# Altium integrated library TI Power Management Inverting Regulator.IntLib: 24 symbols
Pins are listed as number, name and electrical type; pins without a type are passive.

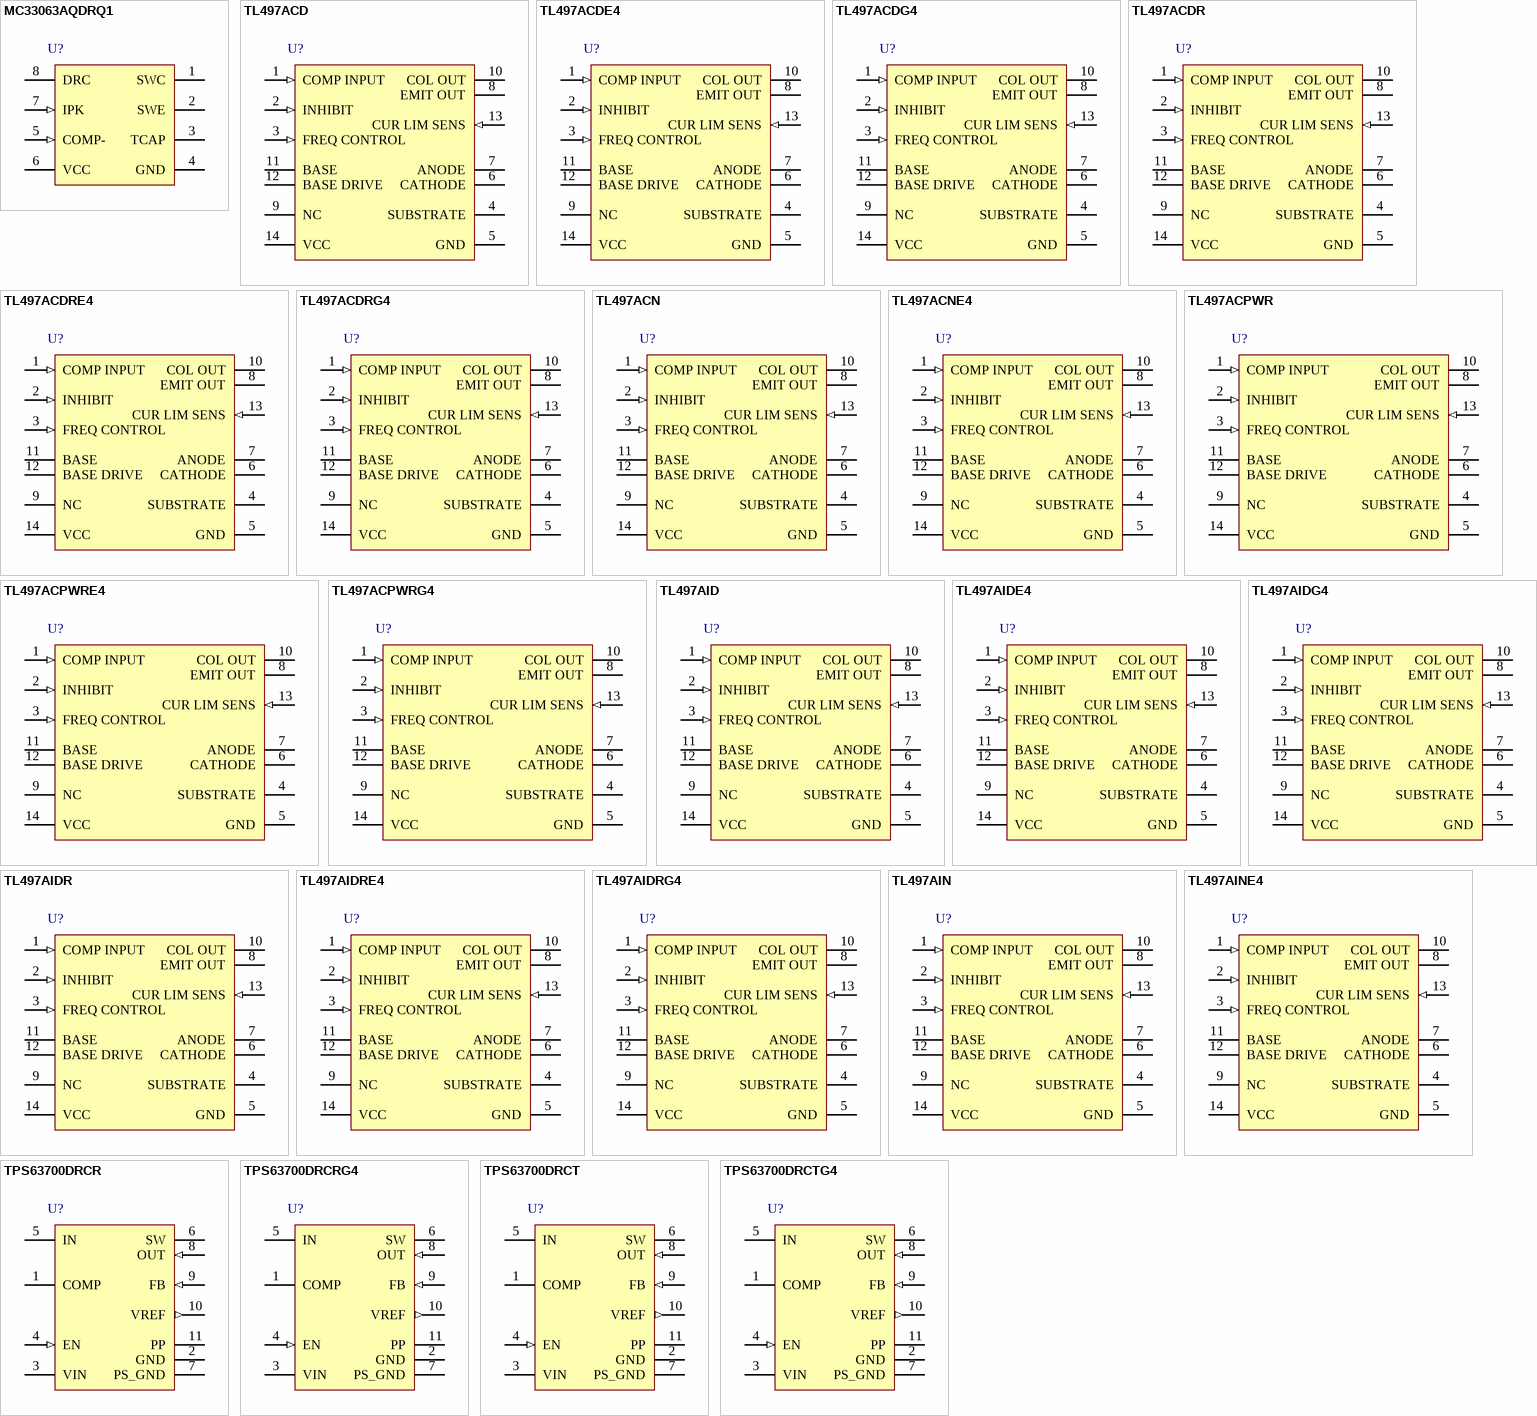
[diagram p0: symbols MC33063AQDRQ1 to TPS63700DRCTG4]

## MC33063AQDRQ1
designator U?
Inverting Buck-Boost Regulator with 3 to 40 V Input and 1.25 to 40 V Output, -40 to 125 degC, 8-Pin SOIC (D), Green (RoHS & no Sb/Br); Manufacturer: Texas Instruments; PartNumber: MC33063AQDRQ1; Regulated Outputs(#): 1; SubFamily: Inverting Regulator; Switch Current Limit(Typ)(A): 1.5; Switching Frequency(Max)(kHz): 100; Vin(Max)(V): 40; Vin(Min)(V): 3; Vout(Min)(V): 1.25; DatasheetVersion: SLLS654B; PackageVersion: revM, Jun-2011; PackageReference: D8; PackageDescription: 8-Pin Plastic Small Outline Integrated Circuit, 4.9 x 3.9 mm, Pitch 1.27 mm Pitch; Supplier 1: Digi-Key; Supplier Part Number 1: 296-18690-2-ND; Supplier 2: Digi-Key; Supplier Part Number 2: 296-18690-1-ND; Supplier 3: Digi-Key; Supplier Part Number 3: 296-18690-6-ND; Supplier 4: Newark; Supplier Part Number 4: 53K9332; Supplier 5: Mouser; Supplier Part Number 5: 595-MC33063AQDRQ1; Eco-Plan: Green (RoHS & no Sb/Br); Topology: Inverting Buck-Boost; Vout(Max)(V): 40; Mounting Technology: Surface Mount; Code_JEDEC: MS-012AA; ComponentLink1Description: Datasheet; ComponentLink1URL: http://www.ti.com/general/docs/lit/getliterature.tsp?genericPartNumber=MC33063A-Q1&fileType=pdf; ComponentLink2Description: Package Specification; ComponentLink2URL: http://www.ti.com/litv/pdf/msoi002j
footprint D8_N (SOIC, 8-Leads, Body 4.9x3.9mm, Pitch 1.27mm, IPC Medium Density)
footprint D8_L (SOIC, 8-Leads, Body 4.9x3.9mm, Pitch 1.27mm, IPC High Density)
footprint D8_M (SOIC, 8-Leads, Body 4.9x3.9mm, Pitch 1.27mm, IPC Low Density)
pins: 1 SWC (oc), 2 SWE (oe), 3 TCAP, 4 GND (power), 5 COMP- (in), 6 VCC (power), 7 IPK (in), 8 DRC (oc)

## TL497ACD
designator U?
Inverting Buck-Boost Regulator with 4.5 to 12 V Input and -25 to 30 V Output, 0 to 70 degC, 14-Pin SOIC (D), Green (RoHS & no Sb/Br); Manufacturer: Texas Instruments; PartNumber: TL497ACD; Iout(Max)(A): 0.5; Iq(Typ)(mA): 11; Regulated Outputs(#): 1; SubFamily: Inverting Regulator; Vin(Max)(V): 12; Vin(Min)(V): 4.5; Vout(Max)(V): 30; DatasheetVersion: SLVS009F; PackageVersion: revM, Jun-2011; PackageReference: D14; PackageDescription: 14-Pin Plastic Small Outline Integrated Circuit, 8.7 x 3.9 mm, Pitch 1.27 mm Pitch; Supplier 1: Digi-Key; Supplier Part Number 1: 296-10195-5-ND; Supplier 2: Newark; Supplier Part Number 2: 08F9460; Supplier 3: Mouser; Supplier Part Number 3: 595-TL497ACD; Eco-Plan: Green (RoHS & no Sb/Br); Switch Current Limit(Typ)(A): 0.5; Topology: Inverting Buck-Boost; Vout(Min)(V): -25; Mounting Technology: Surface Mount; Code_JEDEC: MS-012AB; ComponentLink1Description: Datasheet; ComponentLink1URL: http://www.ti.com/general/docs/lit/getliterature.tsp?genericPartNumber=TL497A&fileType=pdf; ComponentLink2Description: Package Specification; ComponentLink2URL: http://www.ti.com/lit/ml/mpds177g/mpds177g.pdf
footprint D14_N (SOIC, 14-Leads, Body 8.7x3.9mm, Pitch 1.27mm, IPC Medium Density)
footprint D14_L (SOIC, 14-Leads, Body 8.7x3.9mm, Pitch 1.27mm, IPC High Density)
footprint D14_M (SOIC, 14-Leads, Body 8.7x3.9mm, Pitch 1.27mm, IPC Low Density)
pins: 1 COMP INPUT (in), 2 INHIBIT (in), 3 FREQ CONTROL (in), 4 SUBSTRATE (power), 5 GND (power), 6 CATHODE, 7 ANODE, 8 EMIT OUT, 9 NC, 10 COL OUT, 11 BASE, 12 BASE DRIVE, 13 CUR LIM SENS (in), 14 VCC (power)

## TL497ACDE4
designator U?
Inverting Buck-Boost Regulator with 4.5 to 12 V Input and -25 to 30 V Output, 0 to 70 degC, 14-Pin SOIC (D), Green (RoHS & no Sb/Br); Manufacturer: Texas Instruments; PartNumber: TL497ACDE4; Iout(Max)(A): 0.5; Iq(Typ)(mA): 11; Regulated Outputs(#): 1; SubFamily: Inverting Regulator; Vin(Max)(V): 12; Vin(Min)(V): 4.5; Vout(Max)(V): 30; DatasheetVersion: SLVS009F; PackageVersion: revM, Jun-2011; PackageReference: D14; PackageDescription: 14-Pin Plastic Small Outline Integrated Circuit, 8.7 x 3.9 mm, Pitch 1.27 mm Pitch; Supplier 1: Digi-Key; Supplier Part Number 1: TL497ACDE4-ND; Supplier 2: Newark; Supplier Part Number 2: 37K4542; Supplier 3: Mouser; Supplier Part Number 3: 595-TL497ACDE4; Eco-Plan: Green (RoHS & no Sb/Br); Switch Current Limit(Typ)(A): 0.5; Topology: Inverting Buck-Boost; Vout(Min)(V): -25; Mounting Technology: Surface Mount; Code_JEDEC: MS-012AB; ComponentLink1Description: Datasheet; ComponentLink1URL: http://www.ti.com/general/docs/lit/getliterature.tsp?genericPartNumber=TL497A&fileType=pdf; ComponentLink2Description: Package Specification; ComponentLink2URL: http://www.ti.com/lit/ml/mpds177g/mpds177g.pdf
footprint D14_N (SOIC, 14-Leads, Body 8.7x3.9mm, Pitch 1.27mm, IPC Medium Density)
footprint D14_L (SOIC, 14-Leads, Body 8.7x3.9mm, Pitch 1.27mm, IPC High Density)
footprint D14_M (SOIC, 14-Leads, Body 8.7x3.9mm, Pitch 1.27mm, IPC Low Density)
pins: 1 COMP INPUT (in), 2 INHIBIT (in), 3 FREQ CONTROL (in), 4 SUBSTRATE (power), 5 GND (power), 6 CATHODE, 7 ANODE, 8 EMIT OUT, 9 NC, 10 COL OUT, 11 BASE, 12 BASE DRIVE, 13 CUR LIM SENS (in), 14 VCC (power)

## TL497ACDG4
designator U?
Inverting Buck-Boost Regulator with 4.5 to 12 V Input and -25 to 30 V Output, 0 to 70 degC, 14-Pin SOIC (D), Green (RoHS & no Sb/Br); Manufacturer: Texas Instruments; PartNumber: TL497ACDG4; Iout(Max)(A): 0.5; Iq(Typ)(mA): 11; Regulated Outputs(#): 1; SubFamily: Inverting Regulator; Vin(Max)(V): 12; Vin(Min)(V): 4.5; Vout(Max)(V): 30; DatasheetVersion: SLVS009F; PackageVersion: revM, Jun-2011; PackageReference: D14; PackageDescription: 14-Pin Plastic Small Outline Integrated Circuit, 8.7 x 3.9 mm, Pitch 1.27 mm Pitch; Supplier 1: Digi-Key; Supplier Part Number 1: TL497ACDG4-ND; Supplier 2: Newark; Supplier Part Number 2: 41M5757; Supplier 3: Mouser; Supplier Part Number 3: 595-TL497ACDG4; Eco-Plan: Green (RoHS & no Sb/Br); Switch Current Limit(Typ)(A): 0.5; Topology: Inverting Buck-Boost; Vout(Min)(V): -25; Mounting Technology: Surface Mount; Code_JEDEC: MS-012AB; ComponentLink1Description: Datasheet; ComponentLink1URL: http://www.ti.com/general/docs/lit/getliterature.tsp?genericPartNumber=TL497A&fileType=pdf; ComponentLink2Description: Package Specification; ComponentLink2URL: http://www.ti.com/lit/ml/mpds177g/mpds177g.pdf
footprint D14_N (SOIC, 14-Leads, Body 8.7x3.9mm, Pitch 1.27mm, IPC Medium Density)
footprint D14_L (SOIC, 14-Leads, Body 8.7x3.9mm, Pitch 1.27mm, IPC High Density)
footprint D14_M (SOIC, 14-Leads, Body 8.7x3.9mm, Pitch 1.27mm, IPC Low Density)
pins: 1 COMP INPUT (in), 2 INHIBIT (in), 3 FREQ CONTROL (in), 4 SUBSTRATE (power), 5 GND (power), 6 CATHODE, 7 ANODE, 8 EMIT OUT, 9 NC, 10 COL OUT, 11 BASE, 12 BASE DRIVE, 13 CUR LIM SENS (in), 14 VCC (power)

## TL497ACDR
designator U?
Inverting Buck-Boost Regulator with 4.5 to 12 V Input and -25 to 30 V Output, 0 to 70 degC, 14-Pin SOIC (D), Green (RoHS & no Sb/Br); Manufacturer: Texas Instruments; PartNumber: TL497ACDR; Iout(Max)(A): 0.5; Iq(Typ)(mA): 11; Regulated Outputs(#): 1; SubFamily: Inverting Regulator; Vin(Max)(V): 12; Vin(Min)(V): 4.5; Vout(Max)(V): 30; DatasheetVersion: SLVS009F; PackageVersion: revM, Jun-2011; PackageReference: D14; PackageDescription: 14-Pin Plastic Small Outline Integrated Circuit, 8.7 x 3.9 mm, Pitch 1.27 mm Pitch; Supplier 1: Digi-Key; Supplier Part Number 1: 296-10195-2-ND; Supplier 2: Digi-Key; Supplier Part Number 2: 296-10195-1-ND; Supplier 3: Newark; Supplier Part Number 3: 76C9277; Supplier 4: Mouser; Supplier Part Number 4: 595-TL497ACDR; Eco-Plan: Green (RoHS & no Sb/Br); Switch Current Limit(Typ)(A): 0.5; Topology: Inverting Buck-Boost; Vout(Min)(V): -25; Mounting Technology: Surface Mount; Code_JEDEC: MS-012AB; ComponentLink1Description: Datasheet; ComponentLink1URL: http://www.ti.com/general/docs/lit/getliterature.tsp?genericPartNumber=TL497A&fileType=pdf; ComponentLink2Description: Package Specification; ComponentLink2URL: http://www.ti.com/lit/ml/mpds177g/mpds177g.pdf
footprint D14_N (SOIC, 14-Leads, Body 8.7x3.9mm, Pitch 1.27mm, IPC Medium Density)
footprint D14_L (SOIC, 14-Leads, Body 8.7x3.9mm, Pitch 1.27mm, IPC High Density)
footprint D14_M (SOIC, 14-Leads, Body 8.7x3.9mm, Pitch 1.27mm, IPC Low Density)
pins: 1 COMP INPUT (in), 2 INHIBIT (in), 3 FREQ CONTROL (in), 4 SUBSTRATE (power), 5 GND (power), 6 CATHODE, 7 ANODE, 8 EMIT OUT, 9 NC, 10 COL OUT, 11 BASE, 12 BASE DRIVE, 13 CUR LIM SENS (in), 14 VCC (power)

## TL497ACDRE4
designator U?
Inverting Buck-Boost Regulator with 4.5 to 12 V Input and -25 to 30 V Output, 0 to 70 degC, 14-Pin SOIC (D), Green (RoHS & no Sb/Br); Manufacturer: Texas Instruments; PartNumber: TL497ACDRE4; Iout(Max)(A): 0.5; Iq(Typ)(mA): 11; Regulated Outputs(#): 1; SubFamily: Inverting Regulator; Vin(Max)(V): 12; Vin(Min)(V): 4.5; Vout(Max)(V): 30; DatasheetVersion: SLVS009F; PackageVersion: revM, Jun-2011; PackageReference: D14; PackageDescription: 14-Pin Plastic Small Outline Integrated Circuit, 8.7 x 3.9 mm, Pitch 1.27 mm Pitch; Supplier 1: Digi-Key; Supplier Part Number 1: TL497ACDRE4-ND; Supplier 2: Newark; Supplier Part Number 2: 37K4543; Supplier 3: Mouser; Supplier Part Number 3: 595-TL497ACDRE4; Eco-Plan: Green (RoHS & no Sb/Br); Switch Current Limit(Typ)(A): 0.5; Topology: Inverting Buck-Boost; Vout(Min)(V): -25; Mounting Technology: Surface Mount; Code_JEDEC: MS-012AB; ComponentLink1Description: Datasheet; ComponentLink1URL: http://www.ti.com/general/docs/lit/getliterature.tsp?genericPartNumber=TL497A&fileType=pdf; ComponentLink2Description: Package Specification; ComponentLink2URL: http://www.ti.com/lit/ml/mpds177g/mpds177g.pdf
footprint D14_N (SOIC, 14-Leads, Body 8.7x3.9mm, Pitch 1.27mm, IPC Medium Density)
footprint D14_L (SOIC, 14-Leads, Body 8.7x3.9mm, Pitch 1.27mm, IPC High Density)
footprint D14_M (SOIC, 14-Leads, Body 8.7x3.9mm, Pitch 1.27mm, IPC Low Density)
pins: 1 COMP INPUT (in), 2 INHIBIT (in), 3 FREQ CONTROL (in), 4 SUBSTRATE (power), 5 GND (power), 6 CATHODE, 7 ANODE, 8 EMIT OUT, 9 NC, 10 COL OUT, 11 BASE, 12 BASE DRIVE, 13 CUR LIM SENS (in), 14 VCC (power)

## TL497ACDRG4
designator U?
Inverting Buck-Boost Regulator with 4.5 to 12 V Input and -25 to 30 V Output, 0 to 70 degC, 14-Pin SOIC (D), Green (RoHS & no Sb/Br); Manufacturer: Texas Instruments; PartNumber: TL497ACDRG4; Iout(Max)(A): 0.5; Iq(Typ)(mA): 11; Regulated Outputs(#): 1; SubFamily: Inverting Regulator; Vin(Max)(V): 12; Vin(Min)(V): 4.5; Vout(Max)(V): 30; DatasheetVersion: SLVS009F; PackageVersion: revM, Jun-2011; PackageReference: D14; PackageDescription: 14-Pin Plastic Small Outline Integrated Circuit, 8.7 x 3.9 mm, Pitch 1.27 mm Pitch; Supplier 1: Digi-Key; Supplier Part Number 1: TL497ACDRG4-ND; Supplier 2: Newark; Supplier Part Number 2: 41M5758; Supplier 3: Mouser; Supplier Part Number 3: 595-TL497ACDRG4; Eco-Plan: Green (RoHS & no Sb/Br); Switch Current Limit(Typ)(A): 0.5; Topology: Inverting Buck-Boost; Vout(Min)(V): -25; Mounting Technology: Surface Mount; Code_JEDEC: MS-012AB; ComponentLink1Description: Datasheet; ComponentLink1URL: http://www.ti.com/general/docs/lit/getliterature.tsp?genericPartNumber=TL497A&fileType=pdf; ComponentLink2Description: Package Specification; ComponentLink2URL: http://www.ti.com/lit/ml/mpds177g/mpds177g.pdf
footprint D14_N (SOIC, 14-Leads, Body 8.7x3.9mm, Pitch 1.27mm, IPC Medium Density)
footprint D14_L (SOIC, 14-Leads, Body 8.7x3.9mm, Pitch 1.27mm, IPC High Density)
footprint D14_M (SOIC, 14-Leads, Body 8.7x3.9mm, Pitch 1.27mm, IPC Low Density)
pins: 1 COMP INPUT (in), 2 INHIBIT (in), 3 FREQ CONTROL (in), 4 SUBSTRATE (power), 5 GND (power), 6 CATHODE, 7 ANODE, 8 EMIT OUT, 9 NC, 10 COL OUT, 11 BASE, 12 BASE DRIVE, 13 CUR LIM SENS (in), 14 VCC (power)

## TL497ACN
designator U?
Inverting Buck-Boost Regulator with 4.5 to 12 V Input and -25 to 30 V Output, 0 to 70 degC, 14-Pin PDIP (N), Pb-Free (RoHS); Manufacturer: Texas Instruments; PartNumber: TL497ACN; Iout(Max)(A): 0.5; Iq(Typ)(mA): 11; Regulated Outputs(#): 1; SubFamily: Inverting Regulator; Vin(Max)(V): 12; Vin(Min)(V): 4.5; Vout(Max)(V): 30; DatasheetVersion: SLVS009F; PackageVersion: revE, Dec-2002; PackageReference: N14; PackageDescription: 14-Pin Plastic Dual-In-Line Package, Row Spacing 7.62 mm, Pitch 2.54 mm; Supplier 1: Digi-Key; Supplier Part Number 1: 296-10196-5-ND; Supplier 2: Farnell; Supplier Part Number 2: 1106037; Supplier 3: Farnell; Supplier Part Number 3: 2133867; Supplier 4: Newark; Supplier Part Number 4: 68K1133; Supplier 5: Mouser; Supplier Part Number 5: 595-TL497ACN; Eco-Plan: Pb-Free (RoHS); Switch Current Limit(Typ)(A): 0.5; Topology: Inverting Buck-Boost; Vout(Min)(V): -25; Mounting Technology: Through Hole; Code_JEDEC: MS-001; ComponentLink1Description: Datasheet; ComponentLink1URL: http://www.ti.com/general/docs/lit/getliterature.tsp?genericPartNumber=TL497A&fileType=pdf; ComponentLink2Description: Package Specification; ComponentLink2URL: http://www.ti.com/litv/pdf/mplc004a
footprint N14 (DIP, 14-Leads, Row Spacing 7.62mm, Pitch 2.54mm, Body 19.3x6.4mm)
pins: 1 COMP INPUT (in), 2 INHIBIT (in), 3 FREQ CONTROL (in), 4 SUBSTRATE (power), 5 GND (power), 6 CATHODE, 7 ANODE, 8 EMIT OUT, 9 NC, 10 COL OUT, 11 BASE, 12 BASE DRIVE, 13 CUR LIM SENS (in), 14 VCC (power)

## TL497ACNE4
designator U?
Inverting Buck-Boost Regulator with 4.5 to 12 V Input and -25 to 30 V Output, 0 to 70 degC, 14-Pin PDIP (N), Pb-Free (RoHS); Manufacturer: Texas Instruments; PartNumber: TL497ACNE4; Iout(Max)(A): 0.5; Iq(Typ)(mA): 11; Regulated Outputs(#): 1; SubFamily: Inverting Regulator; Vin(Max)(V): 12; Vin(Min)(V): 4.5; Vout(Max)(V): 30; DatasheetVersion: SLVS009F; PackageVersion: revE, Dec-2002; PackageReference: N14; PackageDescription: 14-Pin Plastic Dual-In-Line Package, Row Spacing 7.62 mm, Pitch 2.54 mm; Supplier 1: Digi-Key; Supplier Part Number 1: TL497ACNE4-ND; Supplier 2: Newark; Supplier Part Number 2: 75K1600; Supplier 3: Mouser; Supplier Part Number 3: 595-TL497ACNE4; Eco-Plan: Pb-Free (RoHS); Switch Current Limit(Typ)(A): 0.5; Topology: Inverting Buck-Boost; Vout(Min)(V): -25; Mounting Technology: Through Hole; Code_JEDEC: MS-001; ComponentLink1Description: Datasheet; ComponentLink1URL: http://www.ti.com/general/docs/lit/getliterature.tsp?genericPartNumber=TL497A&fileType=pdf; ComponentLink2Description: Package Specification; ComponentLink2URL: http://www.ti.com/litv/pdf/mplc004a
footprint N14 (DIP, 14-Leads, Row Spacing 7.62mm, Pitch 2.54mm, Body 19.3x6.4mm)
pins: 1 COMP INPUT (in), 2 INHIBIT (in), 3 FREQ CONTROL (in), 4 SUBSTRATE (power), 5 GND (power), 6 CATHODE, 7 ANODE, 8 EMIT OUT, 9 NC, 10 COL OUT, 11 BASE, 12 BASE DRIVE, 13 CUR LIM SENS (in), 14 VCC (power)

## TL497ACPWR
designator U?
Inverting Buck-Boost Regulator with 4.5 to 12 V Input and -25 to 30 V Output, 0 to 70 degC, 14-Pin TSSOP (PW), Green (RoHS & no Sb/Br); Manufacturer: Texas Instruments; PartNumber: TL497ACPWR; Iout(Max)(A): 0.5; Iq(Typ)(mA): 11; Regulated Outputs(#): 1; SubFamily: Inverting Regulator; Vin(Max)(V): 12; Vin(Min)(V): 4.5; Vout(Max)(V): 30; DatasheetVersion: SLVS009F; PackageVersion: revG, Feb-2011; PackageReference: PW14; PackageDescription: 14-Pin Thin Small Outline Package 0.65 mm Pitch; Supplier 1: Digi-Key; Supplier Part Number 1: 296-23298-2-ND; Supplier 2: Digi-Key; Supplier Part Number 2: 296-23298-1-ND; Supplier 3: Digi-Key; Supplier Part Number 3: 296-23298-6-ND; Supplier 4: Newark; Supplier Part Number 4: 76C9279; Supplier 5: Mouser; Supplier Part Number 5: 595-TL497ACPWR; Eco-Plan: Green (RoHS & no Sb/Br); Switch Current Limit(Typ)(A): 0.5; Topology: Inverting Buck-Boost; Vout(Min)(V): -25; Mounting Technology: Surface Mount; Code_JEDEC: MO-153; ComponentLink1Description: Datasheet; ComponentLink1URL: http://www.ti.com/general/docs/lit/getliterature.tsp?genericPartNumber=TL497A&fileType=pdf; ComponentLink2Description: Package Specification; ComponentLink2URL: http://www.ti.com/litv/pdf/mpds177g
footprint PW14_N (TSOP, 14-Leads, Body 5x4.4mm, Pitch 0.65mm, IPC Medium Density)
footprint PW14_L (TSOP, 14-Leads, Body 5x4.4mm, Pitch 0.65mm, IPC High Density)
footprint PW14_M (TSOP, 14-Leads, Body 5x4.4mm, Pitch 0.65mm, IPC Low Density)
pins: 1 COMP INPUT (in), 2 INHIBIT (in), 3 FREQ CONTROL (in), 4 SUBSTRATE (power), 5 GND (power), 6 CATHODE, 7 ANODE, 8 EMIT OUT, 9 NC, 10 COL OUT, 11 BASE, 12 BASE DRIVE, 13 CUR LIM SENS (in), 14 VCC (power)

## TL497ACPWRE4
designator U?
Inverting Buck-Boost Regulator with 4.5 to 12 V Input and -25 to 30 V Output, 0 to 70 degC, 14-Pin TSSOP (PW), Green (RoHS & no Sb/Br); Manufacturer: Texas Instruments; PartNumber: TL497ACPWRE4; Iout(Max)(A): 0.5; Iq(Typ)(mA): 11; Regulated Outputs(#): 1; SubFamily: Inverting Regulator; Vin(Max)(V): 12; Vin(Min)(V): 4.5; Vout(Max)(V): 30; DatasheetVersion: SLVS009F; PackageVersion: revG, Feb-2011; PackageReference: PW14; PackageDescription: 14-Pin Thin Small Outline Package 0.65 mm Pitch; Supplier 1: Digi-Key; Supplier Part Number 1: TL497ACPWRE4-ND; Supplier 2: Newark; Supplier Part Number 2: 69K0648; Supplier 3: Mouser; Supplier Part Number 3: 595-TL497ACPWRE4; Eco-Plan: Green (RoHS & no Sb/Br); Switch Current Limit(Typ)(A): 0.5; Topology: Inverting Buck-Boost; Vout(Min)(V): -25; Mounting Technology: Surface Mount; Code_JEDEC: MO-153; ComponentLink1Description: Datasheet; ComponentLink1URL: http://www.ti.com/general/docs/lit/getliterature.tsp?genericPartNumber=TL497A&fileType=pdf; ComponentLink2Description: Package Specification; ComponentLink2URL: http://www.ti.com/litv/pdf/mpds177g
footprint PW14_N (TSOP, 14-Leads, Body 5x4.4mm, Pitch 0.65mm, IPC Medium Density)
footprint PW14_L (TSOP, 14-Leads, Body 5x4.4mm, Pitch 0.65mm, IPC High Density)
footprint PW14_M (TSOP, 14-Leads, Body 5x4.4mm, Pitch 0.65mm, IPC Low Density)
pins: 1 COMP INPUT (in), 2 INHIBIT (in), 3 FREQ CONTROL (in), 4 SUBSTRATE (power), 5 GND (power), 6 CATHODE, 7 ANODE, 8 EMIT OUT, 9 NC, 10 COL OUT, 11 BASE, 12 BASE DRIVE, 13 CUR LIM SENS (in), 14 VCC (power)

## TL497ACPWRG4
designator U?
Inverting Buck-Boost Regulator with 4.5 to 12 V Input and -25 to 30 V Output, 0 to 70 degC, 14-Pin TSSOP (PW), Green (RoHS & no Sb/Br); Manufacturer: Texas Instruments; PartNumber: TL497ACPWRG4; Iout(Max)(A): 0.5; Iq(Typ)(mA): 11; Regulated Outputs(#): 1; SubFamily: Inverting Regulator; Vin(Max)(V): 12; Vin(Min)(V): 4.5; Vout(Max)(V): 30; DatasheetVersion: SLVS009F; PackageVersion: revG, Feb-2011; PackageReference: PW14; PackageDescription: 14-Pin Thin Small Outline Package 0.65 mm Pitch; Supplier 1: Digi-Key; Supplier Part Number 1: TL497ACPWRG4-ND; Supplier 2: Newark; Supplier Part Number 2: 40K9716; Supplier 3: Mouser; Supplier Part Number 3: 595-TL497ACPWRG4; Eco-Plan: Green (RoHS & no Sb/Br); Switch Current Limit(Typ)(A): 0.5; Topology: Inverting Buck-Boost; Vout(Min)(V): -25; Mounting Technology: Surface Mount; Code_JEDEC: MO-153; ComponentLink1Description: Datasheet; ComponentLink1URL: http://www.ti.com/general/docs/lit/getliterature.tsp?genericPartNumber=TL497A&fileType=pdf; ComponentLink2Description: Package Specification; ComponentLink2URL: http://www.ti.com/litv/pdf/mpds177g
footprint PW14_N (TSOP, 14-Leads, Body 5x4.4mm, Pitch 0.65mm, IPC Medium Density)
footprint PW14_L (TSOP, 14-Leads, Body 5x4.4mm, Pitch 0.65mm, IPC High Density)
footprint PW14_M (TSOP, 14-Leads, Body 5x4.4mm, Pitch 0.65mm, IPC Low Density)
pins: 1 COMP INPUT (in), 2 INHIBIT (in), 3 FREQ CONTROL (in), 4 SUBSTRATE (power), 5 GND (power), 6 CATHODE, 7 ANODE, 8 EMIT OUT, 9 NC, 10 COL OUT, 11 BASE, 12 BASE DRIVE, 13 CUR LIM SENS (in), 14 VCC (power)

## TL497AID
designator U?
Inverting Buck-Boost Regulator with 4.5 to 12 V Input and -25 to 30 V Output, -40 to 85 degC, 14-Pin SOIC (D), Green (RoHS & no Sb/Br); Manufacturer: Texas Instruments; PartNumber: TL497AID; Iout(Max)(A): 0.5; Iq(Typ)(mA): 11; Regulated Outputs(#): 1; SubFamily: Inverting Regulator; Vin(Max)(V): 12; Vin(Min)(V): 4.5; Vout(Max)(V): 30; DatasheetVersion: SLVS009F; PackageVersion: revM, Jun-2011; PackageReference: D14; PackageDescription: 14-Pin Plastic Small Outline Integrated Circuit, 8.7 x 3.9 mm, Pitch 1.27 mm Pitch; Supplier 1: Digi-Key; Supplier Part Number 1: 296-10197-5-ND; Supplier 2: Newark; Supplier Part Number 2: 76C9280; Supplier 3: Mouser; Supplier Part Number 3: 595-TL497AID; Eco-Plan: Green (RoHS & no Sb/Br); Switch Current Limit(Typ)(A): 0.5; Topology: Inverting Buck-Boost; Vout(Min)(V): -25; Mounting Technology: Surface Mount; Code_JEDEC: MS-012AB; ComponentLink1Description: Datasheet; ComponentLink1URL: http://www.ti.com/general/docs/lit/getliterature.tsp?genericPartNumber=TL497A&fileType=pdf; ComponentLink2Description: Package Specification; ComponentLink2URL: http://www.ti.com/lit/ml/mpds177g/mpds177g.pdf
footprint D14_N (SOIC, 14-Leads, Body 8.7x3.9mm, Pitch 1.27mm, IPC Medium Density)
footprint D14_L (SOIC, 14-Leads, Body 8.7x3.9mm, Pitch 1.27mm, IPC High Density)
footprint D14_M (SOIC, 14-Leads, Body 8.7x3.9mm, Pitch 1.27mm, IPC Low Density)
pins: 1 COMP INPUT (in), 2 INHIBIT (in), 3 FREQ CONTROL (in), 4 SUBSTRATE (power), 5 GND (power), 6 CATHODE, 7 ANODE, 8 EMIT OUT, 9 NC, 10 COL OUT, 11 BASE, 12 BASE DRIVE, 13 CUR LIM SENS (in), 14 VCC (power)

## TL497AIDE4
designator U?
Inverting Buck-Boost Regulator with 4.5 to 12 V Input and -25 to 30 V Output, -40 to 85 degC, 14-Pin SOIC (D), Green (RoHS & no Sb/Br); Manufacturer: Texas Instruments; PartNumber: TL497AIDE4; Iout(Max)(A): 0.5; Iq(Typ)(mA): 11; Regulated Outputs(#): 1; SubFamily: Inverting Regulator; Vin(Max)(V): 12; Vin(Min)(V): 4.5; Vout(Max)(V): 30; DatasheetVersion: SLVS009F; PackageVersion: revM, Jun-2011; PackageReference: D14; PackageDescription: 14-Pin Plastic Small Outline Integrated Circuit, 8.7 x 3.9 mm, Pitch 1.27 mm Pitch; Supplier 1: Digi-Key; Supplier Part Number 1: TL497AIDE4-ND; Supplier 2: Newark; Supplier Part Number 2: 37K4545; Supplier 3: Mouser; Supplier Part Number 3: 595-TL497AIDE4; Eco-Plan: Green (RoHS & no Sb/Br); Switch Current Limit(Typ)(A): 0.5; Topology: Inverting Buck-Boost; Vout(Min)(V): -25; Mounting Technology: Surface Mount; Code_JEDEC: MS-012AB; ComponentLink1Description: Datasheet; ComponentLink1URL: http://www.ti.com/general/docs/lit/getliterature.tsp?genericPartNumber=TL497A&fileType=pdf; ComponentLink2Description: Package Specification; ComponentLink2URL: http://www.ti.com/lit/ml/mpds177g/mpds177g.pdf
footprint D14_N (SOIC, 14-Leads, Body 8.7x3.9mm, Pitch 1.27mm, IPC Medium Density)
footprint D14_L (SOIC, 14-Leads, Body 8.7x3.9mm, Pitch 1.27mm, IPC High Density)
footprint D14_M (SOIC, 14-Leads, Body 8.7x3.9mm, Pitch 1.27mm, IPC Low Density)
pins: 1 COMP INPUT (in), 2 INHIBIT (in), 3 FREQ CONTROL (in), 4 SUBSTRATE (power), 5 GND (power), 6 CATHODE, 7 ANODE, 8 EMIT OUT, 9 NC, 10 COL OUT, 11 BASE, 12 BASE DRIVE, 13 CUR LIM SENS (in), 14 VCC (power)

## TL497AIDG4
designator U?
Inverting Buck-Boost Regulator with 4.5 to 12 V Input and -25 to 30 V Output, -40 to 85 degC, 14-Pin SOIC (D), Green (RoHS & no Sb/Br); Manufacturer: Texas Instruments; PartNumber: TL497AIDG4; Iout(Max)(A): 0.5; Iq(Typ)(mA): 11; Regulated Outputs(#): 1; SubFamily: Inverting Regulator; Vin(Max)(V): 12; Vin(Min)(V): 4.5; Vout(Max)(V): 30; DatasheetVersion: SLVS009F; PackageVersion: revM, Jun-2011; PackageReference: D14; PackageDescription: 14-Pin Plastic Small Outline Integrated Circuit, 8.7 x 3.9 mm, Pitch 1.27 mm Pitch; Supplier 1: Digi-Key; Supplier Part Number 1: TL497AIDG4-ND; Supplier 2: Newark; Supplier Part Number 2: 41M5759; Supplier 3: Mouser; Supplier Part Number 3: 595-TL497AIDG4; Eco-Plan: Green (RoHS & no Sb/Br); Switch Current Limit(Typ)(A): 0.5; Topology: Inverting Buck-Boost; Vout(Min)(V): -25; Mounting Technology: Surface Mount; Code_JEDEC: MS-012AB; ComponentLink1Description: Datasheet; ComponentLink1URL: http://www.ti.com/general/docs/lit/getliterature.tsp?genericPartNumber=TL497A&fileType=pdf; ComponentLink2Description: Package Specification; ComponentLink2URL: http://www.ti.com/lit/ml/mpds177g/mpds177g.pdf
footprint D14_N (SOIC, 14-Leads, Body 8.7x3.9mm, Pitch 1.27mm, IPC Medium Density)
footprint D14_L (SOIC, 14-Leads, Body 8.7x3.9mm, Pitch 1.27mm, IPC High Density)
footprint D14_M (SOIC, 14-Leads, Body 8.7x3.9mm, Pitch 1.27mm, IPC Low Density)
pins: 1 COMP INPUT (in), 2 INHIBIT (in), 3 FREQ CONTROL (in), 4 SUBSTRATE (power), 5 GND (power), 6 CATHODE, 7 ANODE, 8 EMIT OUT, 9 NC, 10 COL OUT, 11 BASE, 12 BASE DRIVE, 13 CUR LIM SENS (in), 14 VCC (power)

## TL497AIDR
designator U?
Inverting Buck-Boost Regulator with 4.5 to 12 V Input and -25 to 30 V Output, -40 to 85 degC, 14-Pin SOIC (D), Green (RoHS & no Sb/Br); Manufacturer: Texas Instruments; PartNumber: TL497AIDR; Iout(Max)(A): 0.5; Iq(Typ)(mA): 11; Regulated Outputs(#): 1; SubFamily: Inverting Regulator; Vin(Max)(V): 12; Vin(Min)(V): 4.5; Vout(Max)(V): 30; DatasheetVersion: SLVS009F; PackageVersion: revM, Jun-2011; PackageReference: D14; PackageDescription: 14-Pin Plastic Small Outline Integrated Circuit, 8.7 x 3.9 mm, Pitch 1.27 mm Pitch; Supplier 1: Digi-Key; Supplier Part Number 1: 296-10197-2-ND; Supplier 2: Digi-Key; Supplier Part Number 2: 296-10197-1-ND; Supplier 3: Digi-Key; Supplier Part Number 3: 296-10197-6-ND; Supplier 4: Newark; Supplier Part Number 4: 76C9281; Supplier 5: Mouser; Supplier Part Number 5: 595-TL497AIDR; Eco-Plan: Green (RoHS & no Sb/Br); Switch Current Limit(Typ)(A): 0.5; Topology: Inverting Buck-Boost; Vout(Min)(V): -25; Mounting Technology: Surface Mount; Code_JEDEC: MS-012AB; ComponentLink1Description: Datasheet; ComponentLink1URL: http://www.ti.com/general/docs/lit/getliterature.tsp?genericPartNumber=TL497A&fileType=pdf; ComponentLink2Description: Package Specification; ComponentLink2URL: http://www.ti.com/lit/ml/mpds177g/mpds177g.pdf
footprint D14_N (SOIC, 14-Leads, Body 8.7x3.9mm, Pitch 1.27mm, IPC Medium Density)
footprint D14_L (SOIC, 14-Leads, Body 8.7x3.9mm, Pitch 1.27mm, IPC High Density)
footprint D14_M (SOIC, 14-Leads, Body 8.7x3.9mm, Pitch 1.27mm, IPC Low Density)
pins: 1 COMP INPUT (in), 2 INHIBIT (in), 3 FREQ CONTROL (in), 4 SUBSTRATE (power), 5 GND (power), 6 CATHODE, 7 ANODE, 8 EMIT OUT, 9 NC, 10 COL OUT, 11 BASE, 12 BASE DRIVE, 13 CUR LIM SENS (in), 14 VCC (power)

## TL497AIDRE4
designator U?
Inverting Buck-Boost Regulator with 4.5 to 12 V Input and -25 to 30 V Output, -40 to 85 degC, 14-Pin SOIC (D), Green (RoHS & no Sb/Br); Manufacturer: Texas Instruments; PartNumber: TL497AIDRE4; Iout(Max)(A): 0.5; Iq(Typ)(mA): 11; Regulated Outputs(#): 1; SubFamily: Inverting Regulator; Vin(Max)(V): 12; Vin(Min)(V): 4.5; Vout(Max)(V): 30; DatasheetVersion: SLVS009F; PackageVersion: revM, Jun-2011; PackageReference: D14; PackageDescription: 14-Pin Plastic Small Outline Integrated Circuit, 8.7 x 3.9 mm, Pitch 1.27 mm Pitch; Supplier 1: Digi-Key; Supplier Part Number 1: TL497AIDRE4-ND; Supplier 2: Newark; Supplier Part Number 2: 61K1825; Supplier 3: Mouser; Supplier Part Number 3: 595-TL497AIDRE4; Eco-Plan: Green (RoHS & no Sb/Br); Switch Current Limit(Typ)(A): 0.5; Topology: Inverting Buck-Boost; Vout(Min)(V): -25; Mounting Technology: Surface Mount; Code_JEDEC: MS-012AB; ComponentLink1Description: Datasheet; ComponentLink1URL: http://www.ti.com/general/docs/lit/getliterature.tsp?genericPartNumber=TL497A&fileType=pdf; ComponentLink2Description: Package Specification; ComponentLink2URL: http://www.ti.com/lit/ml/mpds177g/mpds177g.pdf
footprint D14_N (SOIC, 14-Leads, Body 8.7x3.9mm, Pitch 1.27mm, IPC Medium Density)
footprint D14_L (SOIC, 14-Leads, Body 8.7x3.9mm, Pitch 1.27mm, IPC High Density)
footprint D14_M (SOIC, 14-Leads, Body 8.7x3.9mm, Pitch 1.27mm, IPC Low Density)
pins: 1 COMP INPUT (in), 2 INHIBIT (in), 3 FREQ CONTROL (in), 4 SUBSTRATE (power), 5 GND (power), 6 CATHODE, 7 ANODE, 8 EMIT OUT, 9 NC, 10 COL OUT, 11 BASE, 12 BASE DRIVE, 13 CUR LIM SENS (in), 14 VCC (power)

## TL497AIDRG4
designator U?
Inverting Buck-Boost Regulator with 4.5 to 12 V Input and -25 to 30 V Output, -40 to 85 degC, 14-Pin SOIC (D), Green (RoHS & no Sb/Br); Manufacturer: Texas Instruments; PartNumber: TL497AIDRG4; Iout(Max)(A): 0.5; Iq(Typ)(mA): 11; Regulated Outputs(#): 1; SubFamily: Inverting Regulator; Vin(Max)(V): 12; Vin(Min)(V): 4.5; Vout(Max)(V): 30; DatasheetVersion: SLVS009F; PackageVersion: revM, Jun-2011; PackageReference: D14; PackageDescription: 14-Pin Plastic Small Outline Integrated Circuit, 8.7 x 3.9 mm, Pitch 1.27 mm Pitch; Supplier 1: Digi-Key; Supplier Part Number 1: TL497AIDRG4-ND; Supplier 2: Newark; Supplier Part Number 2: 41M5760; Supplier 3: Mouser; Supplier Part Number 3: 595-TL497AIDRG4; Eco-Plan: Green (RoHS & no Sb/Br); Switch Current Limit(Typ)(A): 0.5; Topology: Inverting Buck-Boost; Vout(Min)(V): -25; Mounting Technology: Surface Mount; Code_JEDEC: MS-012AB; ComponentLink1Description: Datasheet; ComponentLink1URL: http://www.ti.com/general/docs/lit/getliterature.tsp?genericPartNumber=TL497A&fileType=pdf; ComponentLink2Description: Package Specification; ComponentLink2URL: http://www.ti.com/lit/ml/mpds177g/mpds177g.pdf
footprint D14_N (SOIC, 14-Leads, Body 8.7x3.9mm, Pitch 1.27mm, IPC Medium Density)
footprint D14_L (SOIC, 14-Leads, Body 8.7x3.9mm, Pitch 1.27mm, IPC High Density)
footprint D14_M (SOIC, 14-Leads, Body 8.7x3.9mm, Pitch 1.27mm, IPC Low Density)
pins: 1 COMP INPUT (in), 2 INHIBIT (in), 3 FREQ CONTROL (in), 4 SUBSTRATE (power), 5 GND (power), 6 CATHODE, 7 ANODE, 8 EMIT OUT, 9 NC, 10 COL OUT, 11 BASE, 12 BASE DRIVE, 13 CUR LIM SENS (in), 14 VCC (power)

## TL497AIN
designator U?
Inverting Buck-Boost Regulator with 4.5 to 12 V Input and -25 to 30 V Output, -40 to 85 degC, 14-Pin PDIP (N), Pb-Free (RoHS); Manufacturer: Texas Instruments; PartNumber: TL497AIN; Iout(Max)(A): 0.5; Iq(Typ)(mA): 11; Regulated Outputs(#): 1; SubFamily: Inverting Regulator; Vin(Max)(V): 12; Vin(Min)(V): 4.5; Vout(Max)(V): 30; DatasheetVersion: SLVS009F; PackageVersion: revE, Dec-2002; PackageReference: N14; PackageDescription: 14-Pin Plastic Dual-In-Line Package, Row Spacing 7.62 mm, Pitch 2.54 mm; Supplier 1: Digi-Key; Supplier Part Number 1: 296-10198-5-ND; Supplier 2: Newark; Supplier Part Number 2: 76C9282; Supplier 3: Mouser; Supplier Part Number 3: 595-TL497AIN; Eco-Plan: Pb-Free (RoHS); Switch Current Limit(Typ)(A): 0.5; Topology: Inverting Buck-Boost; Vout(Min)(V): -25; Mounting Technology: Through Hole; Code_JEDEC: MS-001; ComponentLink1Description: Datasheet; ComponentLink1URL: http://www.ti.com/general/docs/lit/getliterature.tsp?genericPartNumber=TL497A&fileType=pdf; ComponentLink2Description: Package Specification; ComponentLink2URL: http://www.ti.com/litv/pdf/mplc004a
footprint N14 (DIP, 14-Leads, Row Spacing 7.62mm, Pitch 2.54mm, Body 19.3x6.4mm)
pins: 1 COMP INPUT (in), 2 INHIBIT (in), 3 FREQ CONTROL (in), 4 SUBSTRATE (power), 5 GND (power), 6 CATHODE, 7 ANODE, 8 EMIT OUT, 9 NC, 10 COL OUT, 11 BASE, 12 BASE DRIVE, 13 CUR LIM SENS (in), 14 VCC (power)

## TL497AINE4
designator U?
Inverting Buck-Boost Regulator with 4.5 to 12 V Input and -25 to 30 V Output, -40 to 85 degC, 14-Pin PDIP (N), Pb-Free (RoHS); Manufacturer: Texas Instruments; PartNumber: TL497AINE4; Iout(Max)(A): 0.5; Iq(Typ)(mA): 11; Regulated Outputs(#): 1; SubFamily: Inverting Regulator; Vin(Max)(V): 12; Vin(Min)(V): 4.5; Vout(Max)(V): 30; DatasheetVersion: SLVS009F; PackageVersion: revE, Dec-2002; PackageReference: N14; PackageDescription: 14-Pin Plastic Dual-In-Line Package, Row Spacing 7.62 mm, Pitch 2.54 mm; Supplier 1: Digi-Key; Supplier Part Number 1: TL497AINE4-ND; Supplier 2: Newark; Supplier Part Number 2: 37K4546; Supplier 3: Mouser; Supplier Part Number 3: 595-TL497AINE4; Eco-Plan: Pb-Free (RoHS); Switch Current Limit(Typ)(A): 0.5; Topology: Inverting Buck-Boost; Vout(Min)(V): -25; Mounting Technology: Through Hole; Code_JEDEC: MS-001; ComponentLink1Description: Datasheet; ComponentLink1URL: http://www.ti.com/general/docs/lit/getliterature.tsp?genericPartNumber=TL497A&fileType=pdf; ComponentLink2Description: Package Specification; ComponentLink2URL: http://www.ti.com/litv/pdf/mplc004a
footprint N14 (DIP, 14-Leads, Row Spacing 7.62mm, Pitch 2.54mm, Body 19.3x6.4mm)
pins: 1 COMP INPUT (in), 2 INHIBIT (in), 3 FREQ CONTROL (in), 4 SUBSTRATE (power), 5 GND (power), 6 CATHODE, 7 ANODE, 8 EMIT OUT, 9 NC, 10 COL OUT, 11 BASE, 12 BASE DRIVE, 13 CUR LIM SENS (in), 14 VCC (power)

## TPS63700DRCR
designator U?
Inverting Buck-Boost Adjustable Converter with 2.7 to 5.5 V Input and -15 to -2 V Output, -40 to 85 degC, 10-Pin SON (DRC), Green (RoHS & no Sb/Br); Manufacturer: Texas Instruments; PartNumber: TPS63700DRCR; Duty Cycle(Max)(%): 87.5; Iout(Max)(A): 0.36; Iq(Typ)(mA): 0.97; Regulated Outputs(#): 1; SubFamily: Inverting Regulator; Switching Frequency(Max)(kHz): 1380; Synchronous Rectification: TRUE; Vin(Max)(V): 5.5; Vin(Min)(V): 2.7; DatasheetVersion: SLVS530B; PackageVersion: revL, Sep-2011; PackageReference: DRC10-2400X1650TP; PackageDescription: 10-Pin Plastic Small Outline No-Lead, 3 x 3 x 1 mm Body, 0.5 mm Pitch, Exposed Pad; Supplier 1: Digi-Key; Supplier Part Number 1: 296-31989-2-ND; Supplier 2: Digi-Key; Supplier Part Number 2: 296-31989-1-ND; Supplier 3: Digi-Key; Supplier Part Number 3: 296-31989-6-ND; Supplier 4: Newark; Supplier Part Number 4: 61K1898; Supplier 5: Mouser; Supplier Part Number 5: 595-TPS63700DRCR; Eco-Plan: Green (RoHS & no Sb/Br); Switch Current Limit(Typ)(A): 1; Topology: Inverting Buck-Boost; Vout(Max)(V): -2; Vout(Min)(V): -15; Mounting Technology: Surface Mount; ComponentLink1Description: Datasheet; ComponentLink1URL: http://www.ti.com/general/docs/lit/getliterature.tsp?genericPartNumber=TPS63700&fileType=pdf; ComponentLink2Description: Package Specification; ComponentLink2URL: http://www.ti.com/litv/pdf/mpds117k
footprint DRC10-2400X1650TP (SON, 10-Leads, Body 3x3mm, Pitch 0.5mm, Thermal Pad 2.4x1.65mm, TI Recommended)
pins: 1 COMP "Compensation pin for control, connect a 4.7nF capacitor between this pin and GND", 2 GND (power) "Ground pin", 3 VIN (power) "supply voltage input for control logic, connect a RC circuit of 10R and 100nF to filter this supply voltage", 4 EN (in) "Enable pin (EN=GND: disabled; EN=VIN: enabled)", 5 IN (power) "supply voltage for the power switch", 6 SW (power) "Inverter switch output", 7 PS_GND (power) "Connect to GND for control logic", 8 OUT (in) "Output voltage sense input", 9 FB (in) "Feedback pin for the voltage divider", 10 VREF (out) "Reference voltage output. Connect a 220-nF capacitor to ground. Connect the lower resistor of the negative output voltage divider to this pin.", 11 PP (power) "Exposed  pad"

## TPS63700DRCRG4
designator U?
Inverting Buck-Boost Adjustable Converter with 2.7 to 5.5 V Input and -15 to -2 V Output, -40 to 85 degC, 10-Pin SON (DRC), Green (RoHS & no Sb/Br); Manufacturer: Texas Instruments; PartNumber: TPS63700DRCRG4; Duty Cycle(Max)(%): 87.5; Iout(Max)(A): 0.36; Iq(Typ)(mA): 0.97; Regulated Outputs(#): 1; SubFamily: Inverting Regulator; Switching Frequency(Max)(kHz): 1380; Synchronous Rectification: TRUE; Vin(Max)(V): 5.5; Vin(Min)(V): 2.7; DatasheetVersion: SLVS530B; PackageVersion: revL, Sep-2011; PackageReference: DRC10-2400X1650TP; PackageDescription: 10-Pin Plastic Small Outline No-Lead, 3 x 3 x 1 mm Body, 0.5 mm Pitch, Exposed Pad; Supplier 1: Digi-Key; Supplier Part Number 1: TPS63700DRCRG4-ND; Supplier 2: Newark; Supplier Part Number 2: 67K8647; Supplier 3: Mouser; Supplier Part Number 3: 595-TPS63700DRCRG4; Eco-Plan: Green (RoHS & no Sb/Br); Switch Current Limit(Typ)(A): 1; Topology: Inverting Buck-Boost; Vout(Max)(V): -2; Vout(Min)(V): -15; Mounting Technology: Surface Mount; ComponentLink1Description: Datasheet; ComponentLink1URL: http://www.ti.com/general/docs/lit/getliterature.tsp?genericPartNumber=TPS63700&fileType=pdf; ComponentLink2Description: Package Specification; ComponentLink2URL: http://www.ti.com/litv/pdf/mpds117k
footprint DRC10-2400X1650TP (SON, 10-Leads, Body 3x3mm, Pitch 0.5mm, Thermal Pad 2.4x1.65mm, TI Recommended)
pins: 1 COMP "Compensation pin for control, connect a 4.7nF capacitor between this pin and GND", 2 GND (power) "Ground pin", 3 VIN (power) "supply voltage input for control logic, connect a RC circuit of 10R and 100nF to filter this supply voltage", 4 EN (in) "Enable pin (EN=GND: disabled; EN=VIN: enabled)", 5 IN (power) "supply voltage for the power switch", 6 SW (power) "Inverter switch output", 7 PS_GND (power) "Connect to GND for control logic", 8 OUT (in) "Output voltage sense input", 9 FB (in) "Feedback pin for the voltage divider", 10 VREF (out) "Reference voltage output. Connect a 220-nF capacitor to ground. Connect the lower resistor of the negative output voltage divider to this pin.", 11 PP (power) "Exposed  pad"

## TPS63700DRCT
designator U?
Inverting Buck-Boost Adjustable Converter with 2.7 to 5.5 V Input and -15 to -2 V Output, -40 to 85 degC, 10-Pin SON (DRC), Green (RoHS & no Sb/Br); Manufacturer: Texas Instruments; PartNumber: TPS63700DRCT; Duty Cycle(Max)(%): 87.5; Iout(Max)(A): 0.36; Iq(Typ)(mA): 0.97; Regulated Outputs(#): 1; SubFamily: Inverting Regulator; Switching Frequency(Max)(kHz): 1380; Synchronous Rectification: TRUE; Vin(Max)(V): 5.5; Vin(Min)(V): 2.7; DatasheetVersion: SLVS530B; PackageVersion: revL, Sep-2011; PackageReference: DRC10-2400X1650TP; PackageDescription: 10-Pin Plastic Small Outline No-Lead, 3 x 3 x 1 mm Body, 0.5 mm Pitch, Exposed Pad; Supplier 1: Digi-Key; Supplier Part Number 1: 296-18729-2-ND; Supplier 2: Digi-Key; Supplier Part Number 2: 296-18729-1-ND; Supplier 3: Digi-Key; Supplier Part Number 3: 296-18729-6-ND; Supplier 4: Newark; Supplier Part Number 4: 61K1899; Supplier 5: Mouser; Supplier Part Number 5: 595-TPS63700DRCT; Eco-Plan: Green (RoHS & no Sb/Br); Switch Current Limit(Typ)(A): 1; Topology: Inverting Buck-Boost; Vout(Max)(V): -2; Vout(Min)(V): -15; Mounting Technology: Surface Mount; ComponentLink1Description: Datasheet; ComponentLink1URL: http://www.ti.com/general/docs/lit/getliterature.tsp?genericPartNumber=TPS63700&fileType=pdf; ComponentLink2Description: Package Specification; ComponentLink2URL: http://www.ti.com/litv/pdf/mpds117k
footprint DRC10-2400X1650TP (SON, 10-Leads, Body 3x3mm, Pitch 0.5mm, Thermal Pad 2.4x1.65mm, TI Recommended)
pins: 1 COMP "Compensation pin for control, connect a 4.7nF capacitor between this pin and GND", 2 GND (power) "Ground pin", 3 VIN (power) "supply voltage input for control logic, connect a RC circuit of 10R and 100nF to filter this supply voltage", 4 EN (in) "Enable pin (EN=GND: disabled; EN=VIN: enabled)", 5 IN (power) "supply voltage for the power switch", 6 SW (power) "Inverter switch output", 7 PS_GND (power) "Connect to GND for control logic", 8 OUT (in) "Output voltage sense input", 9 FB (in) "Feedback pin for the voltage divider", 10 VREF (out) "Reference voltage output. Connect a 220-nF capacitor to ground. Connect the lower resistor of the negative output voltage divider to this pin.", 11 PP (power) "Exposed  pad"

## TPS63700DRCTG4
designator U?
Inverting Buck-Boost Adjustable Converter with 2.7 to 5.5 V Input and -15 to -2 V Output, -40 to 85 degC, 10-Pin SON (DRC), Green (RoHS & no Sb/Br); Manufacturer: Texas Instruments; PartNumber: TPS63700DRCTG4; Duty Cycle(Max)(%): 87.5; Iout(Max)(A): 0.36; Iq(Typ)(mA): 0.97; Regulated Outputs(#): 1; SubFamily: Inverting Regulator; Switching Frequency(Max)(kHz): 1380; Synchronous Rectification: TRUE; Vin(Max)(V): 5.5; Vin(Min)(V): 2.7; DatasheetVersion: SLVS530B; PackageVersion: revL, Sep-2011; PackageReference: DRC10-2400X1650TP; PackageDescription: 10-Pin Plastic Small Outline No-Lead, 3 x 3 x 1 mm Body, 0.5 mm Pitch, Exposed Pad; Supplier 1: Digi-Key; Supplier Part Number 1: TPS63700DRCTG4-ND; Supplier 2: Newark; Supplier Part Number 2: 66K4535; Supplier 3: Mouser; Supplier Part Number 3: 595-TPS63700DRCTG4; Eco-Plan: Green (RoHS & no Sb/Br); Switch Current Limit(Typ)(A): 1; Topology: Inverting Buck-Boost; Vout(Max)(V): -2; Vout(Min)(V): -15; Mounting Technology: Surface Mount; ComponentLink1Description: Datasheet; ComponentLink1URL: http://www.ti.com/general/docs/lit/getliterature.tsp?genericPartNumber=TPS63700&fileType=pdf; ComponentLink2Description: Package Specification; ComponentLink2URL: http://www.ti.com/litv/pdf/mpds117k
footprint DRC10-2400X1650TP (SON, 10-Leads, Body 3x3mm, Pitch 0.5mm, Thermal Pad 2.4x1.65mm, TI Recommended)
pins: 1 COMP "Compensation pin for control, connect a 4.7nF capacitor between this pin and GND", 2 GND (power) "Ground pin", 3 VIN (power) "supply voltage input for control logic, connect a RC circuit of 10R and 100nF to filter this supply voltage", 4 EN (in) "Enable pin (EN=GND: disabled; EN=VIN: enabled)", 5 IN (power) "supply voltage for the power switch", 6 SW (power) "Inverter switch output", 7 PS_GND (power) "Connect to GND for control logic", 8 OUT (in) "Output voltage sense input", 9 FB (in) "Feedback pin for the voltage divider", 10 VREF (out) "Reference voltage output. Connect a 220-nF capacitor to ground. Connect the lower resistor of the negative output voltage divider to this pin.", 11 PP (power) "Exposed  pad"